# EAGLE library part MC14028B (library library)
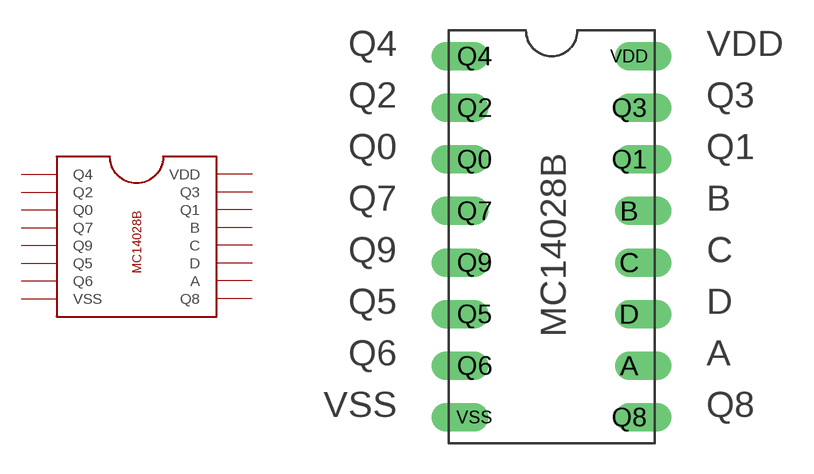
[diagram p6: symbol with the pads of MC14028B; footprint MC14028B]

Designator prefix -

## MC14028B  [MC14028B]
A  A
B  B
C  C
D  D
Q0  Q0
Q1  Q1
Q2  Q2
Q3  Q3
Q4  Q4
Q5  Q5
Q6  Q6
Q7  Q7
Q8  Q8
Q9  Q9
VDD  VDD
VSS  VSS

## Footprint MC14028B (pad centres in mm)
drill 0.889 pad 1.27 offset: A 7.62,-15.24; B 7.62,-7.62; C 7.62,-10.16; D 7.62,-12.7; Q0 0,-5.08; Q1 7.62,-5.08; Q2 0,-2.54; Q3 7.62,-2.54; Q4 0,0; Q5 0,-12.7; Q6 0,-15.24; Q7 0,-7.62; Q8 7.62,-17.78; Q9 0,-10.16; VDD 7.62,0; VSS 0,-17.78